# EAGLE library part SHARP27 (library sharp)
Sharp memory LCD LS027B7DH01
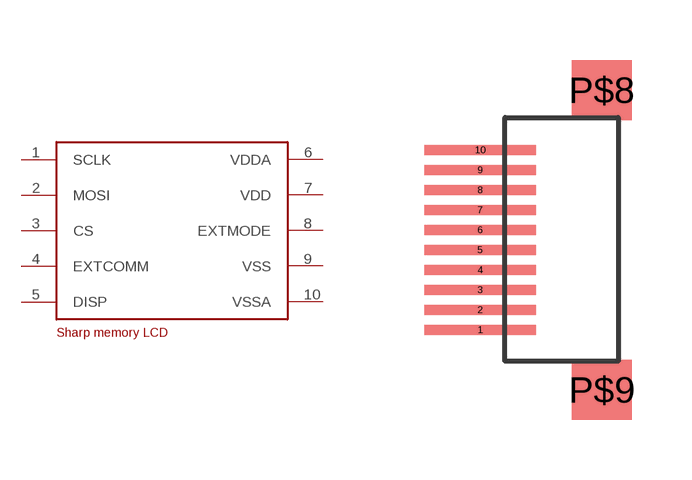
[diagram p0: symbol with the pads of SHARP27; footprint SHARP27]

Designator prefix -

## SHARP27  [SHARP27]
1  SCLK
2  MOSI
3  CS
4  EXTCOMM
5  DISP
6  VDDA
7  VDD
8  EXTMODE
9  VSS
10  VSSA

## Footprint SHARP27 (pad centres in mm)
smd 2.8 x 0.25: 1 -2.62,-2.21; 2 -2.62,-1.71; 3 -2.62,-1.21; 4 -2.62,-0.71; 5 -2.62,-0.21; 6 -2.62,0.29; 7 -2.62,0.79; 8 -2.62,1.29; 9 -2.62,1.79; 10 -2.62,2.29
smd 1.5 x 1.5: P$8 0.425,3.79; P$9 0.425,-3.71